# EAGLE library part IFX91041 (library IC & Transistor)
1.8A DC/DC Step-Down Voltage Regulator
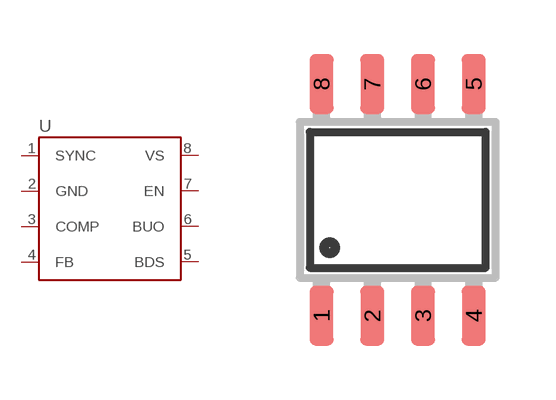
[diagram p37: symbol with the pads of SOIC-08N; footprint SOIC-08N]

Designator prefix U

## IFX91041_(SOIC-08N) (CYTRON-PC: SMD-IC-IFX91041EJV50; DESC: SMD IC - DC/DC Step-Down Voltage Regulator; MF: Infineon Technologies; MPN: IFX91041EJV50; VALUE: 5V)  [SOIC-08N]
1  SYNC
2  GND
3  COMP
4  FB
5  BDS
6  BUO
7  EN
8  VS

## Footprint SOIC-08N (pad centres in mm)
Small Outline Integrated Circuit (SOIC) Narrow (JEDEC) SOIC Package Size: 4.9mm x 3.9mm Lead Pitch: 1.27mm
smd 0.6 x 1.5: 1 -1.905,-2.9; 2 -0.635,-2.9; 3 0.635,-2.9; 4 1.905,-2.9; 5 1.905,2.9; 6 0.635,2.9; 7 -0.635,2.9; 8 -1.905,2.9